# Altium footprint library PCB - LEADED - TO247-3-DIP.PCBLIB: 1 footprints
Each footprint in its own frame and in the unit in brackets; x right, y up, seen from the top. Pads: shape width x height; smd on the part's side, far side on the other; paste and mask are expansions set on the pad; w line width, h text height; cw(c..) or ccw(c..) is an arc to the next point about the centre after c.
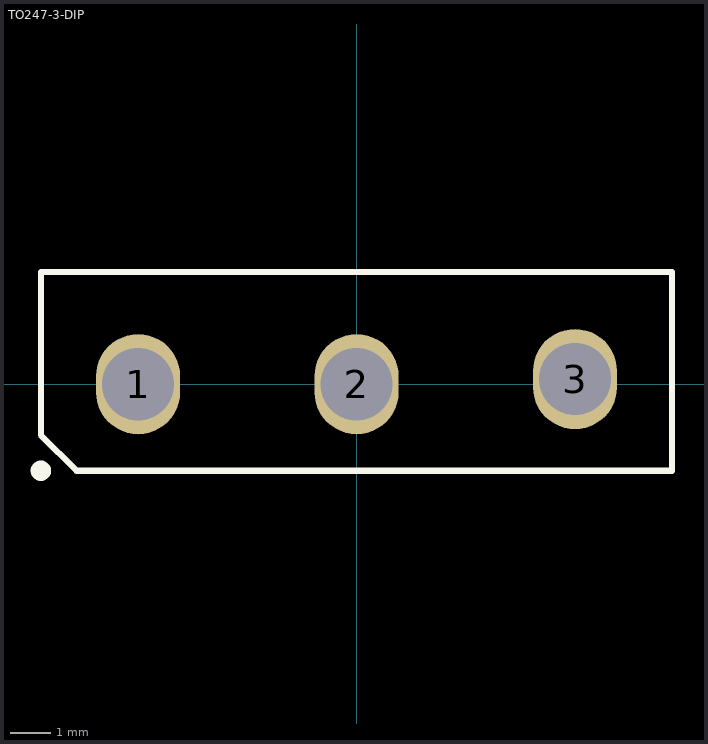
[diagram p0: the footprint, top view; thin cyan lines are the x and y axes]

## TO247-3-DIP [mm]
pads (3):
  oval 2.1x2.5 hole 1.8: 1(-5.45,0) 2(0,0) 3(5.45,0.127)
Top Overlay:
  circle w0.254: c-7.874,-2.159 r0.127
  lines w0.153: -7.874,-1.27 -6.985,-2.159 7.874,-2.159 7.874,2.794 -7.874,2.794 -7.874,-0.254 -7.874,-1.27
3D body "TO-247_factory.stp": height 25.3, standoff -17.4, extent -7.8,-2.159 7.8,2.841